# EAGLE library part MAX3311 (library maxim)
460kbps, 1µA Supply Current, RS-232-Compatible Transceivers in µMAX Source: http://www.maxim-ic.com .. MAX3311-MAX3313.pdf
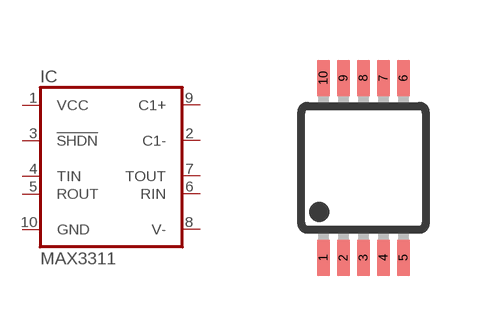
[diagram p370: symbol with the pads of UMAX10; footprint UMAX10]

Designator prefix IC

## MAX3311 (MF: MAXIM; MPN: MAX3311ECUB+; OC_FARNELL: 1379937; OC_NEWARK: 67K4953)  [UMAX10]
1  VCC  pwr
2  C1-  pas
3  !SHDN  in
4  TIN  in
5  ROUT  out
6  RIN  in
7  TOUT  out
8  V-  pas
9  C1+  pas
10  GND  pwr

## Footprint UMAX10 (pad centres in mm)
micro MAX Package
smd 0.32 x 0.9: 1 -1,-2.25; 2 -0.5,-2.25; 3 0,-2.25; 4 0.5,-2.25; 5 1,-2.25; 6 1,2.25; 7 0.5,2.25; 8 0,2.25; 9 -0.5,2.25; 10 -1,2.25